# Altium schematic symbol library 1769.SchLib: 1 symbol
Pins are listed as number, name and electrical type; pins without a type are passive.

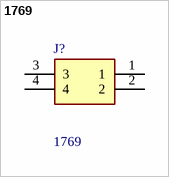
[diagram p0: symbol 1769]

## 1769
designator J?
Adafruit Accessories JST-PH 2-pin SMT Right Angle Connect; Geometry.Height: 5.5mm; Mouser Part Number: 485-1769; Mouser Price/Stock: https://www.mouser.co.uk/ProductDetail/Adafruit/1769?qs=GURawfaeGuBbgoGtf2XstA%3D%3D; Manufacturer_Name: Adafruit; Manufacturer_Part_Number: 1769; Datasheet Link: https://cdn-shop.adafruit.com/datasheets/17311.pdf
footprint 1769
pins: 1, 2, 3, 4